# EAGLE library part PBS-8-VERTICAL (library pls)
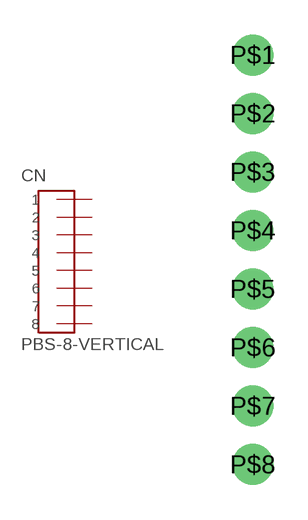
[diagram p0: symbol with the pads of PBS-8-VERTICAL; footprint PBS-8-VERTICAL]

Designator prefix CN

## PBS-8-VERTICAL  [PBS-8-VERTICAL]
P$1  1
P$2  2
P$3  3
P$4  4
P$5  5
P$6  6
P$7  7
P$8  8

## Footprint PBS-8-VERTICAL (pad centres in mm)
drill 0.75 pad 1.778: P$1 0,0; P$2 0,-2.54; P$3 0,-5.08; P$4 0,-7.62; P$5 0,-10.16; P$6 0,-12.7; P$7 0,-15.24
drill 0.7 pad 1.778: P$8 0,-17.78